# EAGLE library part LM25037 (library ruark2)
Full-Bridge, Half-Bridge, Push-Pull Regulator Positive, Isolation Capable Output Step-Up/Step-Down DC-DC Controller IC 16-TSSOP
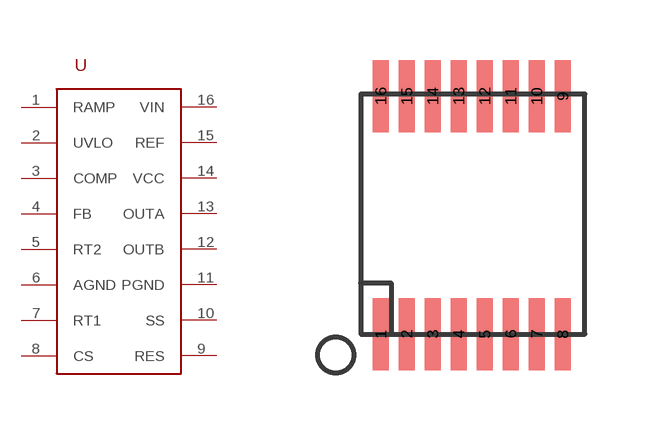
[diagram p1: symbol with the pads of TSSOP16; footprint TSSOP16]

Designator prefix -

## LM25037 (PARTNO: 296-35257-1-ND)  [TSSOP16]
1  RAMP
2  UVLO
3  COMP
4  FB
5  RT2
6  AGND
7  RT1
8  CS
9  RES
10  SS
11  PGND
12  OUTB
13  OUTA
14  VCC
15  REF
16  VIN

## Footprint TSSOP16 (pad centres in mm)
smd 0.4 x 1.8: 1 -2.275,-2.975; 2 -1.625,-2.975; 3 -0.975,-2.975; 4 -0.325,-2.975; 5 0.325,-2.975; 6 0.975,-2.975; 7 1.625,-2.975; 8 2.275,-2.975; 9 2.275,2.975; 10 1.625,2.975; 11 0.975,2.975; 12 0.325,2.975; 13 -0.325,2.975; 14 -0.975,2.975; 15 -1.625,2.975; 16 -2.275,2.975